# Altium footprint library KNoT_Thing.PcbLib: 36 footprints (part 3 of 3)
Each footprint in its own frame and in the unit in brackets; x right, y up, seen from the top. Pads: shape width x height; smd on the part's side, far side on the other; paste and mask are expansions set on the pad; w line width, h text height; cw(c..) or ccw(c..) is an arc to the next point about the centre after c.
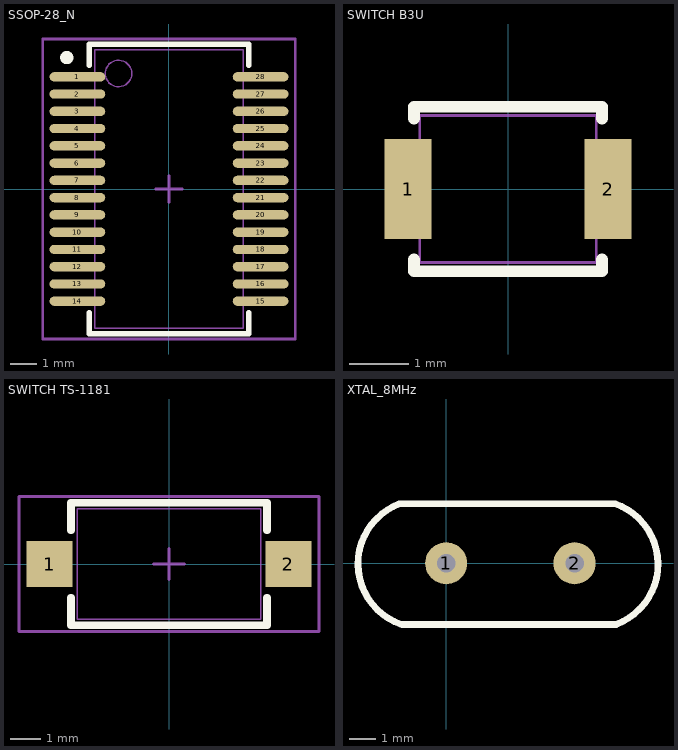
[diagram p2: the footprints below, top view; thin cyan lines are the x and y axes]

## SSOP-28_N [mm] "SOP, 28-Leads, Body 10.2x5.3mm, Pitch 0.65mm, IPC Medium Density"
height 2
pads (28):
  oval 2.1x0.35 smd: 1(-3.45,4.225) 2(-3.45,3.575) 3(-3.45,2.925) 4(-3.45,2.275) 5(-3.45,1.625) 6(-3.45,0.975) 7(-3.45,0.325) 8(-3.45,-0.325) 9(-3.45,-0.975) 10(-3.45,-1.625) 11(-3.45,-2.275) 12(-3.45,-2.925) 13(-3.45,-3.575) 14(-3.45,-4.225) 15(3.45,-4.225) 16(3.45,-3.575) 17(3.45,-2.925) 18(3.45,-2.275) 19(3.45,-1.625) 20(3.45,-0.975) 21(3.45,-0.325) 22(3.45,0.325) 23(3.45,0.975) 24(3.45,1.625) 25(3.45,2.275) 26(3.45,2.925) 27(3.45,3.575) 28(3.45,4.225)
Top Overlay:
  circle w0.25: c-3.85,4.95 r0.125
  lines w0.2: -3,-4.65 -3,-5.45 3,-5.45 3,-4.65 ; -3,4.65 -3,5.45 3,5.45 3,4.65
Mechanical 11:
  circle w0.05: c-1.9,4.35 r0.5
  lines w0.05: -2.8,-5.25 2.8,-5.25 2.8,5.25 -2.8,5.25 -2.8,-5.25
Mechanical 15:
  lines w0.1: -0.5,0 0.5,0 ; 0,-0.5 0,0.5 ; -4.75,-5.65 4.75,-5.65 4.75,5.65 -4.75,5.65 -4.75,-5.65
3D body: height 1.9, standoff 0, extent -3.9,-5.1 3.9,5.1

## SWITCH B3U [mm] "Ultra-small Tactile Switch"
pads (2):
  rect 0.8x1.7 smd: 1(-1.7,0) 2(1.7,0)
Top Overlay:
  lines w0.2: -1.6,-1.2 -1.6,-1.4 1.6,-1.4 1.6,-1.2 ; -1.6,1.2 -1.6,1.4 1.6,1.4 1.6,1.2
Mechanical 11:
  lines w0.05: -1.5,-1.25 -1.5,1.25 1.5,1.25 1.5,-1.25 -1.5,-1.25
3D body: height 1.6, standoff 0, extent -2,-1.25 2,1.25

## SWITCH TS-1181 [mm]
pads (2):
  rect 1.5x1.5 smd: 1(-3.9,0) 2(3.9,0)
Top Overlay:
  lines w0.254: -3.2,-1.1 -3.2,-2 3.2,-2 3.2,-1.1 ; -3.2,1.1 -3.2,2 3.2,2 3.2,1.1
Mechanical 11:
  lines w0.05: -3,-1.8 -3,1.8 3,1.8 3,-1.8 -3,-1.8
Mechanical 15:
  lines w0.1: -0.5,0 0.5,0 ; 0,-0.5 0,0.5 ; -4.9,-2.2 -4.9,2.2 4.9,2.2 4.9,-2.2 -4.9,-2.2
3D body: height 2.4, standoff -0.1, extent -4,-1.8 4,1.8

## XTAL_8MHz [mm] "Cristal 8 MHz FOXSLF/080-20  20pF"
pads (2):
  round 1.6 hole 0.7: 1(0,0) 2(4.88,0)
Top Overlay:
  lines w0.254: -1.725,-2.317 cw(c-0.917,-0.02) -1.77,2.26 6.425,2.26 cw(c5.617,-0.037) 6.47,-2.317 ; -1.68,-2.33 6.47,-2.33
3D body: height 5, standoff -2.5, extent -3.313,-2.37 8.037,2.28